# Altium footprint library microchip.PCBLIB: 3 footprints
Each footprint in its own frame and in the unit in brackets; x right, y up, seen from the top. Pads: shape width x height; smd on the part's side, far side on the other; paste and mask are expansions set on the pad; w line width, h text height; cw(c..) or ccw(c..) is an arc to the next point about the centre after c.
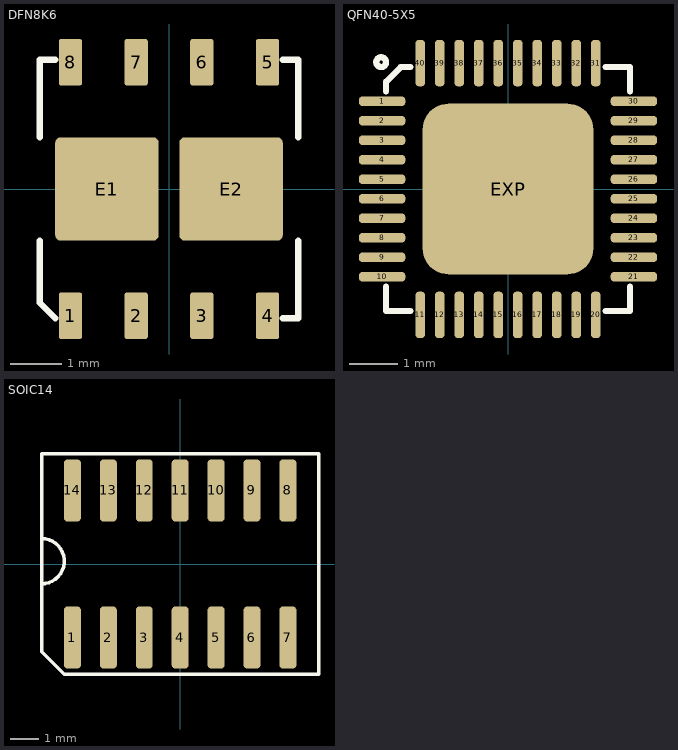
[diagram p0: the footprints below, top view; thin cyan lines are the x and y axes]

## DFN8K6 [mm]
pads (10):
  rrect20% 0.45x0.9 smd: 1(-1.905,-2.45) 2(-0.635,-2.45) 3(0.635,-2.45) 4(1.905,-2.45) 5(1.905,2.45) 6(0.635,2.45) 7(-0.635,2.45) 8(-1.905,2.45)
  rrect10% 2x2 smd: E1(-1.2,0) E2(1.2,0)
Top Overlay:
  lines w0.127: -2.5,-1 -2.5,-2.2 -2.2,-2.5 ; -2.5,1 -2.5,2.5 -2.2,2.5 ; 2.2,-2.5 2.5,-2.5 2.5,-1 ; 2.2,2.5 2.5,2.5 2.5,1

## QFN40-5X5 [mm]
pads (41):
  rrect75% 0.95x0.2 smd paste-0.475 mask-0.475: 1(-2.58,1.8) 2(-2.58,1.4) 3(-2.58,1) 4(-2.58,0.6) 5(-2.58,0.2) 6(-2.58,-0.2) 7(-2.58,-0.6) 8(-2.58,-1) 9(-2.58,-1.4) 10(-2.58,-1.8) 21(2.58,-1.8) 22(2.58,-1.4) 23(2.58,-1) 24(2.58,-0.6) 25(2.58,-0.2) 26(2.58,0.2) 27(2.58,0.6) 28(2.58,1) 29(2.58,1.4) 30(2.58,1.8)
  rrect75% 0.2x0.95 smd paste-0.475 mask-0.475: 11(-1.8,-2.58) 12(-1.4,-2.58) 13(-1,-2.58) 14(-0.6,-2.58) 15(-0.2,-2.58) 16(0.2,-2.58) 17(0.6,-2.58) 18(1,-2.58) 19(1.4,-2.58) 20(1.8,-2.58) 31(1.8,2.58) 32(1.4,2.58) 33(1,2.58) 34(0.6,2.58) 35(0.2,2.58) 36(-0.2,2.58) 37(-0.6,2.58) 38(-1,2.58) 39(-1.4,2.58) 40(-1.8,2.58)
  rrect30% 3.5x3.5 smd paste-1.75 mask-1.75: EXP(0,0)
Top Overlay:
  circle w0.127: c-2.6,2.6 r0.1
  lines w0.127: -2.5,-2 -2.5,-2.5 -2,-2.5 ; -2.5,2 -2.5,2.2 -2.2,2.5 -2,2.5 ; 2,-2.5 2.5,-2.5 2.5,-2 ; 2,2.5 2.5,2.5 2.5,2
Top Paste:
  rectangle: -3,1.725 -2.175,1.875
  rectangle: -3,1.325 -2.175,1.475
  rectangle: -3,0.925 -2.175,1.075
  rectangle: -3,0.525 -2.175,0.675
  rectangle: -3,0.125 -2.175,0.275
  rectangle: -3,-0.275 -2.175,-0.125
  rectangle: -3,-0.675 -2.175,-0.525
  rectangle: -3,-1.075 -2.175,-0.925
  rectangle: -3,-1.475 -2.175,-1.325
  rectangle: -3,-1.875 -2.175,-1.725
  region: -1.725,-3 -1.725,-2.175 -1.875,-2.175 -1.875,-3
  region: -1.325,-3 -1.325,-2.175 -1.475,-2.175 -1.475,-3
  region: -0.925,-3 -0.925,-2.175 -1.075,-2.175 -1.075,-3
  region: -0.525,-3 -0.525,-2.175 -0.675,-2.175 -0.675,-3
  region: -0.125,-3 -0.125,-2.175 -0.275,-2.175 -0.275,-3
  region: 0.275,-3 0.275,-2.175 0.125,-2.175 0.125,-3
  region: 0.675,-3 0.675,-2.175 0.525,-2.175 0.525,-3
  region: 1.075,-3 1.075,-2.175 0.925,-2.175 0.925,-3
  region: 1.475,-3 1.475,-2.175 1.325,-2.175 1.325,-3
  region: 1.875,-3 1.875,-2.175 1.725,-2.175 1.725,-3
  region: 3,-1.725 2.175,-1.725 2.175,-1.875 3,-1.875
  region: 3,-1.325 2.175,-1.325 2.175,-1.475 3,-1.475
  region: 3,-0.925 2.175,-0.925 2.175,-1.075 3,-1.075
  region: 3,-0.525 2.175,-0.525 2.175,-0.675 3,-0.675
  region: 3,-0.125 2.175,-0.125 2.175,-0.275 3,-0.275
  region: 3,0.275 2.175,0.275 2.175,0.125 3,0.125
  region: 3,0.675 2.175,0.675 2.175,0.525 3,0.525
  region: 3,1.075 2.175,1.075 2.175,0.925 3,0.925
  region: 3,1.475 2.175,1.475 2.175,1.325 3,1.325
  region: 3,1.875 2.175,1.875 2.175,1.725 3,1.725
  region: 1.725,3 1.725,2.175 1.875,2.175 1.875,3
  region: 1.325,3 1.325,2.175 1.475,2.175 1.475,3
  region: 0.925,3 0.925,2.175 1.075,2.175 1.075,3
  region: 0.525,3 0.525,2.175 0.675,2.175 0.675,3
  region: 0.125,3 0.125,2.175 0.275,2.175 0.275,3
  region: -0.275,3 -0.275,2.175 -0.125,2.175 -0.125,3
  region: -0.675,3 -0.675,2.175 -0.525,2.175 -0.525,3
  region: -1.075,3 -1.075,2.175 -0.925,2.175 -0.925,3
  region: -1.475,3 -1.475,2.175 -1.325,2.175 -1.325,3
  region: -1.875,3 -1.875,2.175 -1.725,2.175 -1.725,3
  rectangle: -1.65,0.15 -0.15,1.65
  rectangle: 0.15,0.15 1.65,1.65
  rectangle: -1.65,-1.65 -0.15,-0.15
  rectangle: 0.15,-1.65 1.65,-0.15
Top Solder:
  rectangle: -3.075,1.675 -2.075,1.925
  rectangle: -3.075,1.275 -2.075,1.525
  rectangle: -3.075,0.875 -2.075,1.125
  rectangle: -3.075,0.475 -2.075,0.725
  rectangle: -3.075,0.075 -2.075,0.325
  rectangle: -3.075,-0.325 -2.075,-0.075
  rectangle: -3.075,-0.725 -2.075,-0.475
  rectangle: -3.075,-1.125 -2.075,-0.875
  rectangle: -3.075,-1.525 -2.075,-1.275
  rectangle: -3.075,-1.925 -2.075,-1.675
  region: -1.675,-3.075 -1.675,-2.075 -1.925,-2.075 -1.925,-3.075
  region: -1.275,-3.075 -1.275,-2.075 -1.525,-2.075 -1.525,-3.075
  region: -0.875,-3.075 -0.875,-2.075 -1.125,-2.075 -1.125,-3.075
  region: -0.475,-3.075 -0.475,-2.075 -0.725,-2.075 -0.725,-3.075
  region: -0.075,-3.075 -0.075,-2.075 -0.325,-2.075 -0.325,-3.075
  region: 0.325,-3.075 0.325,-2.075 0.075,-2.075 0.075,-3.075
  region: 0.725,-3.075 0.725,-2.075 0.475,-2.075 0.475,-3.075
  region: 1.125,-3.075 1.125,-2.075 0.875,-2.075 0.875,-3.075
  region: 1.525,-3.075 1.525,-2.075 1.275,-2.075 1.275,-3.075
  region: 1.925,-3.075 1.925,-2.075 1.675,-2.075 1.675,-3.075
  region: 3.075,-1.675 2.075,-1.675 2.075,-1.925 3.075,-1.925
  region: 3.075,-1.275 2.075,-1.275 2.075,-1.525 3.075,-1.525
  region: 3.075,-0.875 2.075,-0.875 2.075,-1.125 3.075,-1.125
  region: 3.075,-0.475 2.075,-0.475 2.075,-0.725 3.075,-0.725
  region: 3.075,-0.075 2.075,-0.075 2.075,-0.325 3.075,-0.325
  region: 3.075,0.325 2.075,0.325 2.075,0.075 3.075,0.075
  region: 3.075,0.725 2.075,0.725 2.075,0.475 3.075,0.475
  region: 3.075,1.125 2.075,1.125 2.075,0.875 3.075,0.875
  region: 3.075,1.525 2.075,1.525 2.075,1.275 3.075,1.275
  region: 3.075,1.925 2.075,1.925 2.075,1.675 3.075,1.675
  region: 1.675,3.075 1.675,2.075 1.925,2.075 1.925,3.075
  region: 1.275,3.075 1.275,2.075 1.525,2.075 1.525,3.075
  region: 0.875,3.075 0.875,2.075 1.125,2.075 1.125,3.075
  region: 0.475,3.075 0.475,2.075 0.725,2.075 0.725,3.075
  region: 0.075,3.075 0.075,2.075 0.325,2.075 0.325,3.075
  region: -0.325,3.075 -0.325,2.075 -0.075,2.075 -0.075,3.075
  region: -0.725,3.075 -0.725,2.075 -0.475,2.075 -0.475,3.075
  region: -1.125,3.075 -1.125,2.075 -0.875,2.075 -0.875,3.075
  region: -1.525,3.075 -1.525,2.075 -1.275,2.075 -1.275,3.075
  region: -1.925,3.075 -1.925,2.075 -1.675,2.075 -1.675,3.075
  rectangle: -1.8,-1.8 1.8,1.8

## SOIC14 [mm]
pads (14):
  rrect45% 0.6x2.2 smd: 1(-3.81,-2.6) 2(-2.54,-2.6) 3(-1.27,-2.6) 4(0,-2.6) 5(1.27,-2.6) 6(2.54,-2.6) 7(3.81,-2.6) 8(3.81,2.6) 9(2.54,2.6) 10(1.27,2.6) 11(0,2.6) 12(-1.27,2.6) 13(-2.54,2.6) 14(-3.81,2.6)
Top Overlay:
  lines w0.127: -4.9,-0.7 ccw(c-4.9,0.1) -4.9,0.9 ; -4.9,-3.1 -4.1,-3.9 4.9,-3.9 4.9,3.9 -4.9,3.9 -4.9,-3.1